# Altium schematic symbol library Analog IC.SchLib: 34 symbols
Pins are listed as number, name and electrical type; pins without a type are passive.

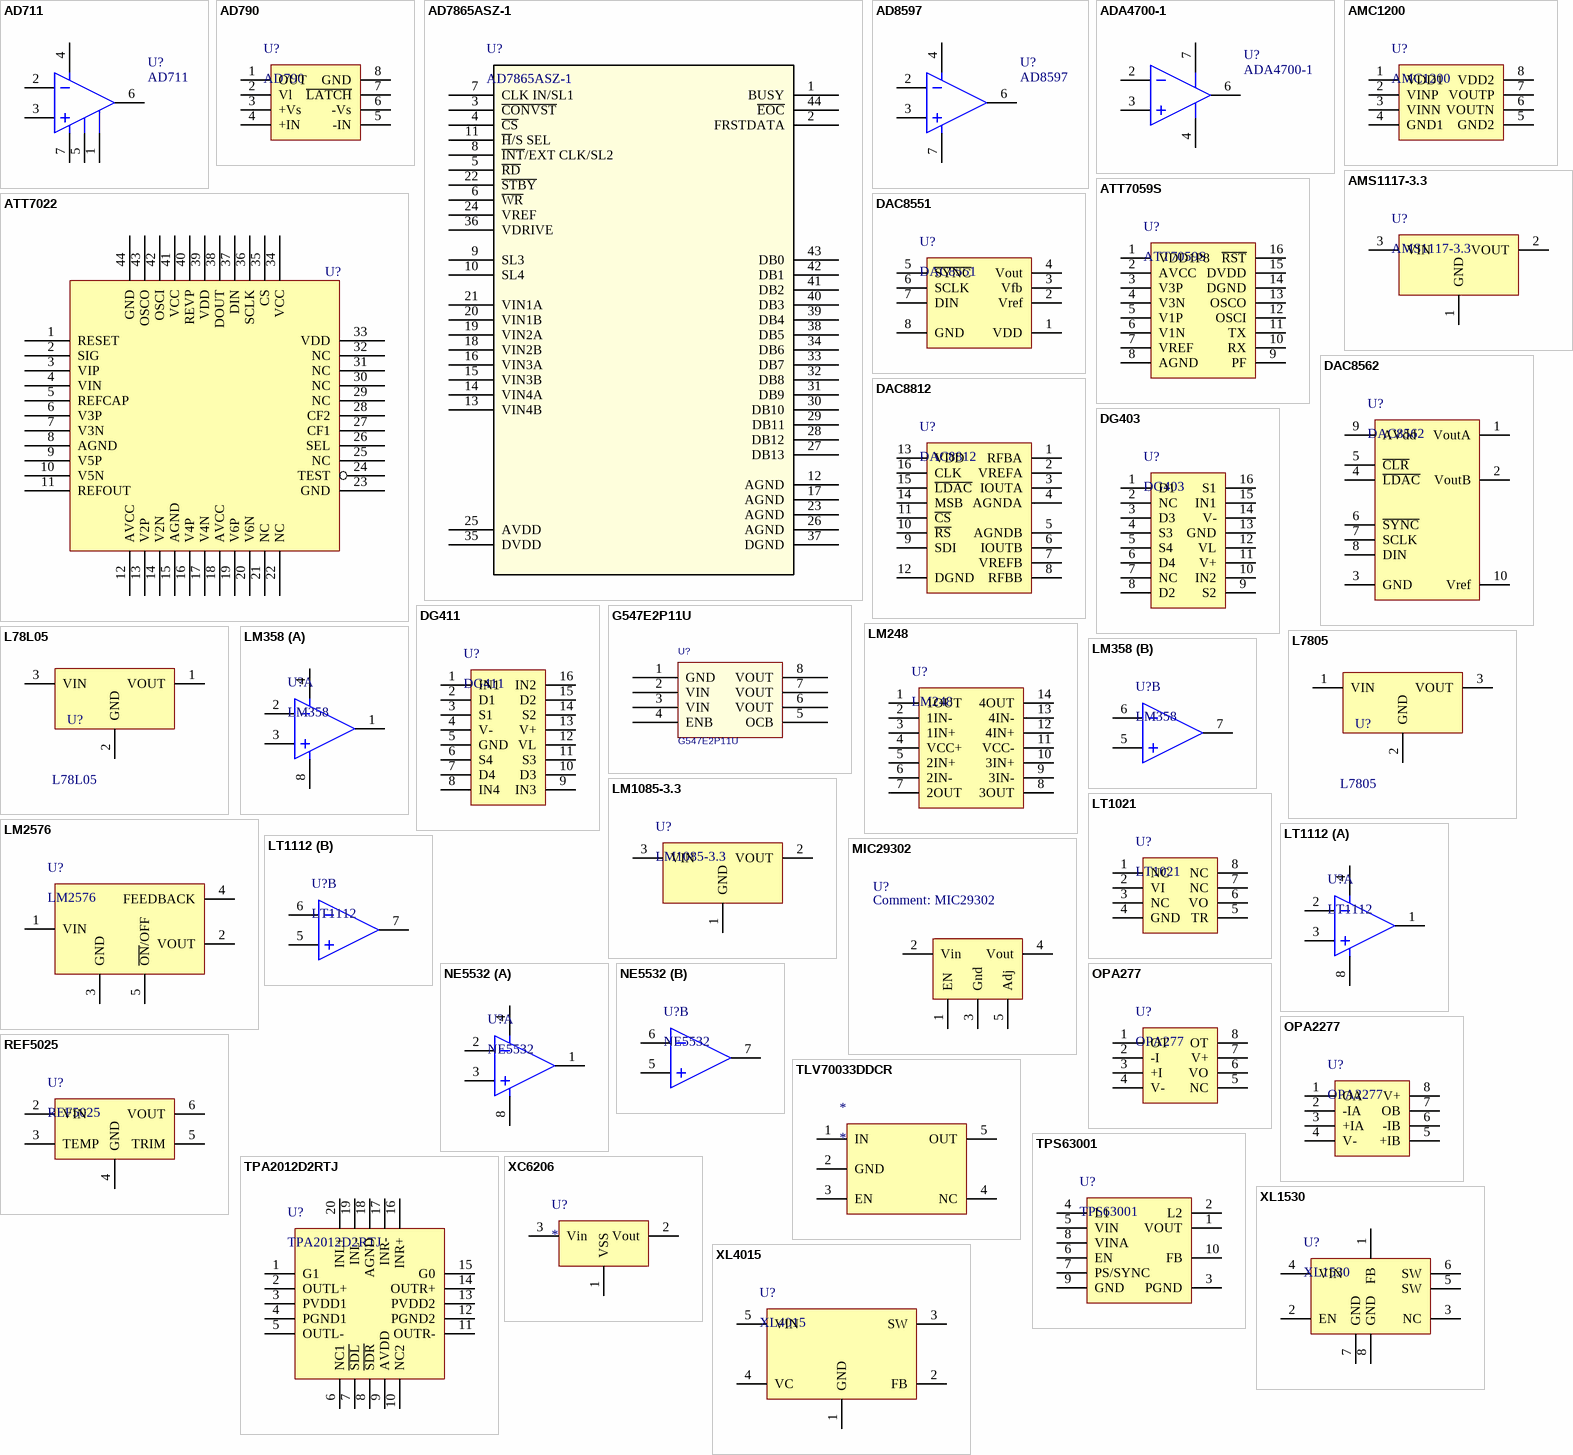
[diagram p0: symbols AD711 to XL4015]

## AD711
designator U?
footprint DIP8
footprint TO-99-8 (TO-99 8Pin)
footprint SOIC8
pins: 1 OFFSET NULL, 2 IN-, 3 IN+, 4 -Vs, 5 OFFSET NULL, 6 OUT, 7 +Vs

## AD790
designator U?
AD790 High Precision Operational Amplifiers
footprint SOIC8
pins: 1 OUT, 2 Vl, 3 +Vs, 4 +IN, 5 -IN, 6 -Vs, 7 ~{LATCH}, 8 GND

## AD7865ASZ-1
designator U?
Manufacturer_Part_Number: AD7865ASZ-1; Vendor: Vendor; RefDes: Refdes; Type: Type; Value: Value
footprint S-44
footprint S-44-L
footprint S-44-M
pins: 1 BUSY, 2 FRSTDATA, 3 ~{CONVST}, 4 ~{CS}, 5 ~{RD}, 6 ~{WR}, 7 CLK IN/SL1, 8 ~{INT}/EXT CLK/SL2, 9 SL3, 10 SL4, 11 ~{H}/S SEL, 12 AGND, 13 VIN4B, 14 VIN4A, 15 VIN3B, 16 VIN3A, 17 AGND, 18 VIN2B, 19 VIN2A, 20 VIN1B, 21 VIN1A, 22 ~{STBY}, 23 AGND, 24 VREF, 25 AVDD (power), 26 AGND, 27 DB13, 28 DB12, 29 DB11, 30 DB10, 31 DB9, 32 DB8, 33 DB7, 34 DB6, 35 DVDD (power), 36 VDRIVE (power), 37 DGND, 38 DB5, 39 DB4, 40 DB3, 41 DB2, 42 DB1, 43 DB0, 44 ~{EOC}

## AD8597
designator U?
footprint SOIC8
footprint QFN8 (QFN-8)
pins: 2 IN-, 3 IN+, 4 -Vs, 6 OUT, 7 +Vs

## ADA4700-1
designator U?
Operational Amplifier
footprint SOP-8-N
pins: 2 IN-, 3 IN+, 4 V-, 6 OUT, 7 V+

## AMC1200
designator U?
footprint SOP-8-DUB
pins: 1 VDD1, 2 VINP, 3 VINN, 4 GND1, 5 GND2, 6 VOUTN, 7 VOUTP, 8 VDD2

## AMS1117-3.3
designator U?
3.3V  3-Terminal Adjustable Positive Voltage Regulator
footprint SOT-223
footprint SOT-89-3
pins: 1 GND, 2 VOUT, 3 VIN

## ATT7022
designator U?  (value not drawn)
pins: 1 RESET, 2 SIG, 3 VIP, 4 VIN, 5 REFCAP, 6 V3P, 7 V3N, 8 AGND, 9 V5P, 10 V5N, 11 REFOUT, 12 AVCC, 13 V2P, 14 V2N, 15 AGND, 16 V4P, 17 V4N, 18 AVCC, 19 V6P, 20 V6N, 21 NC, 22 NC, 23 GND, 24 TEST, 25 NC, 26 SEL, 27 CF1, 28 CF2, 29 NC, 30 NC, 31 NC, 32 NC, 33 VDD, 34 VCC, 35 CS, 36 SCLK, 37 DIN, 38 DOUT, 39 VDD, 40 REVP, 41 VCC, 42 OSCI, 43 OSCO, 44 GND

## ATT7059S
designator U?
footprint TSSOP16 (TSOP, 16-Leads, Body 5.00x4.40mm, Pitch 0.65mm, IPC Medium Density)
pins: 1 VDD1P8, 2 AVCC, 3 V3P, 4 V3N, 5 V1P, 6 V1N, 7 VREF, 8 AGND, 9 PF, 10 RX, 11 TX, 12 OSCI, 13 OSCO, 14 DGND, 15 DVDD, 16 ~{RST}

## DAC8551
designator U?
footprint MSOP-8
pins: 1 VDD, 2 Vref, 3 Vfb, 4 Vout, 5 ~{SYNC}, 6 SCLK, 7 DIN, 8 GND

## DAC8562
designator U?
pins: 1 VoutA, 2 VoutB, 3 GND, 4 ~{LDAC}, 5 ~{CLR}, 6 ~{SYNC}, 7 SCLK, 8 DIN, 9 AVdd, 10 Vref

## DAC8812
designator U?
footprint TSSOP16 (TSOP, 16-Leads, Body 5.00x4.40mm, Pitch 0.65mm, IPC Medium Density)
pins: 1 RFBA, 2 VREFA, 3 IOUTA, 4 AGNDA, 5 AGNDB, 6 IOUTB, 7 VREFB, 8 RFBB, 9 SDI, 10 ~{RS}, 11 ~{CS}, 12 DGND, 13 VDD, 14 MSB, 15 ~{LDAC}, 16 CLK

## DG403
designator U?
footprint DIP16
footprint so-16
pins: 1 D1, 2 NC, 3 D3, 4 S3, 5 S4, 6 D4, 7 NC, 8 D2, 9 S2, 10 IN2, 11 V+, 12 VL, 13 GND, 14 V-, 15 IN1, 16 S1

## DG411
designator U?
footprint so-16
pins: 1 IN1, 2 D1, 3 S1, 4 V-, 5 GND, 6 S4, 7 D4, 8 IN4, 9 IN3, 10 D3, 11 S3, 12 VL, 13 V+, 14 S2, 15 D2, 16 IN2

## G547E2P11U
designator U?
footprint MSOP-8
pins: 1 GND (power), 2 VIN (power), 3 VIN (power), 4 ENB, 5 OCB, 6 VOUT (power), 7 VOUT (power), 8 VOUT (power)

## L78L05
designator U?
3-Terminal Adjustable Positive Voltage Regulator
footprint SOT-89-3
pins: 1 VOUT, 2 GND, 3 VIN

## L7805
designator U?
3-Terminal Adjustable Positive Voltage Regulator
footprint TO-220A
footprint TO-220A1
pins: 1 VIN, 2 GND, 3 VOUT

## LM248
designator U?
footprint SOIC14
pins: 1 1OUT, 2 1IN-, 3 1IN+, 4 VCC+, 5 2IN+, 6 2IN-, 7 2OUT, 8 3OUT, 9 3IN-, 10 3IN+, 11 VCC-, 12 4IN+, 13 4IN-, 14 4OUT

## LM358
designator U?
footprint SOIC8
footprint DIP8
part A pins: 1 OUT A, 2 IN- A, 3 IN+ A, 4 -Vs, 8 +Vs
part B pins: 5 IN+ B, 6 IN- B, 7 OUT B

## LM1085-3.3
designator U?
3.3V  3-Terminal Adjustable Positive Voltage Regulator
footprint TO-263-3
pins: 1 GND, 2 VOUT, 3 VIN

## LM2576
designator U?
footprint TO-263
pins: 1 VIN, 2 VOUT, 3 GND, 4 FEEDBACK, 5 ~{ON}/OFF

## LT1021
designator U?
footprint SO-8
footprint DIP8
pins: 1 NC, 2 VI, 3 NC, 4 GND, 5 TR, 6 VO, 7 NC, 8 NC

## LT1112
designator U?
footprint SOIC8
footprint DIP8
part A pins: 1 OUT A, 2 IN- A, 3 IN+ A, 4 -Vs, 8 +Vs
part B pins: 5 IN+ B, 6 IN- B, 7 OUT B

## MIC29302
designator U?
pins: 1 EN, 2 Vin, 3 Gnd, 4 Vout, 5 Adj

## NE5532
designator U?
footprint SOIC8
footprint DIP8
part A pins: 1 OUT A, 2 IN- A, 3 IN+ A, 4 -Vs, 8 +Vs
part B pins: 5 IN+ B, 6 IN- B, 7 OUT B

## OPA277
designator U?
OPA277 High Precision Operational Amplifiers
footprint SO-8
footprint DIP8
pins: 1 OT, 2 -I, 3 +I, 4 V-, 5 NC, 6 VO, 7 V+, 8 OT

## OPA2277
designator U?
OPA2277 High Precision Operational Amplifiers
footprint SO-8
footprint DIP8
pins: 1 OA, 2 -IA, 3 +IA, 4 V-, 5 +IB, 6 -IB, 7 OB, 8 V+

## REF5025
designator U?
footprint SO-8
pins: 2 VIN, 3 TEMP, 4 GND, 5 TRIM, 6 VOUT

## TLV70033DDCR
designator *
footprint SOT-23-5
pins: 1 IN, 2 GND, 3 EN, 4 NC, 5 OUT

## TPA2012D2RTJ
designator U?
footprint QFN20 (LC-QFN-20_4x4x05P)
pins: 1 G1, 2 OUTL+, 3 PVDD1, 4 PGND1, 5 OUTL-, 6 NC1, 7 ~{SDL}, 8 ~{SDR}, 9 AVDD, 10 NC2, 11 OUTR-, 12 PGND2, 13 PVDD2, 14 OUTR+, 15 G0, 16 INR+, 17 INR-, 18 AGND, 19 INL-, 20 INL+

## TPS63001
designator U?
dc-dc
footprint QFN10 (m, 3 × mm 3)
pins: 1 VOUT, 2 L2, 3 PGND, 4 L1, 5 VIN, 6 EN, 7 PS/SYNC, 8 VINA, 9 GND, 10 FB

## XC6206
designator U?
XC6206
footprint SOT-23
pins: 1 VSS, 2 Vout, 3 Vin

## XL1530
designator U?
footprint SO-8
pins: 1 FB, 2 EN, 3 NC, 4 VIN, 5 SW, 6 SW, 7 GND, 8 GND

## XL4015
designator U?
footprint TO-263
pins: 1 GND, 2 FB, 3 SW, 4 VC, 5 VIN